# Altium footprint library PcbLib.PcbLib: 11 footprints
Each footprint in its own frame and in the unit in brackets; x right, y up, seen from the top. Pads: shape width x height; smd on the part's side, far side on the other; paste and mask are expansions set on the pad; w line width, h text height; cw(c..) or ccw(c..) is an arc to the next point about the centre after c.
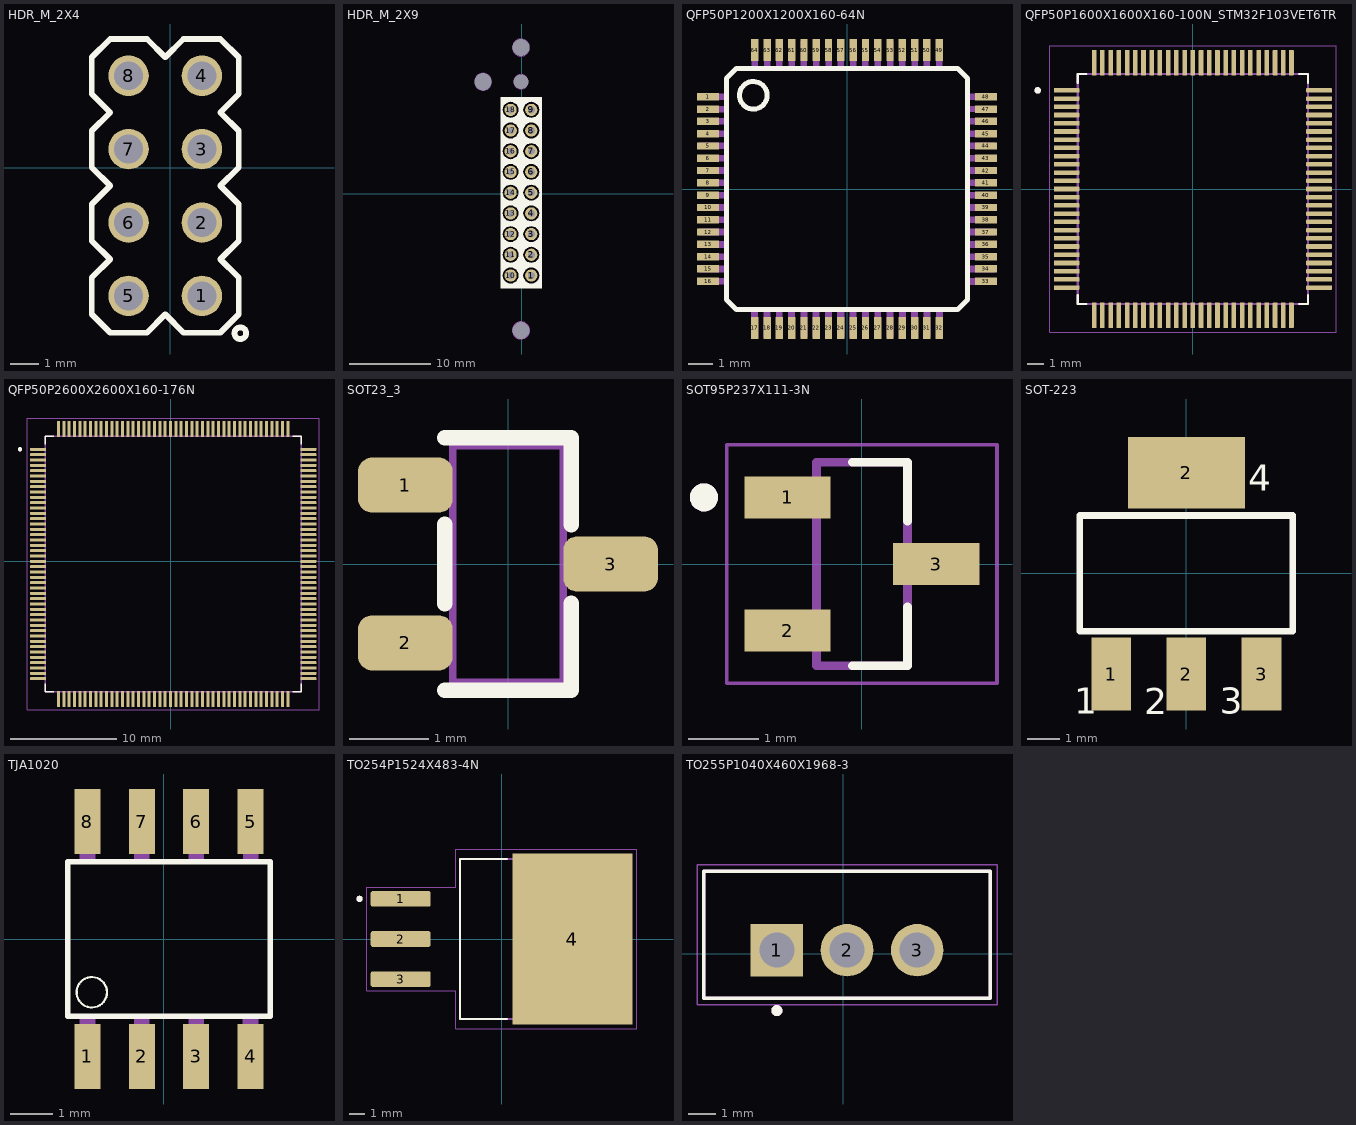
[diagram p0: the footprints below, top view; thin cyan lines are the x and y axes]

## HDR_M_2X4 [mm]
pads (8):
  round 1.4 / inner round 1.4 / far side oval 2.2x1.4 hole 1 mask+0.1: 1(1.093,-4.428) 2(1.093,-1.888) 3(1.093,0.652) 4(1.093,3.192) 5(-1.447,-4.428) 6(-1.447,-1.888) 7(-1.447,0.652) 8(-1.447,3.192)
Top Overlay:
  circle w0.2: c2.423,-5.718 r0.2
  lines w0.2: -2.717,-5.063 -2.717,-3.793 -2.082,-3.158 -2.717,-2.523 -2.717,-1.253 -2.082,-0.618 -2.717,0.017 -2.717,1.287 -2.082,1.922 -2.717,2.557 -2.717,3.827 -2.082,4.462 -0.812,4.462 -0.177,3.827 0.458,4.462 1.728,4.462 2.363,3.827 2.363,2.557 1.728,1.922 2.363,1.287 2.363,0.017 1.728,-0.618 2.363,-1.253 2.363,-2.523 1.728,-3.158 2.363,-3.793 2.363,-5.063 1.728,-5.698 0.458,-5.698 -0.177,-5.063 -0.812,-5.698 -2.082,-5.698 -2.717,-5.063
3D body "User Library-Header_Male_4Pin.STEP": height 8.54, standoff -3, extent -0.177,-5.698 2.312,4.462
3D body "User Library-Header_Male_4Pin.STEP": height 8.54, standoff -3, extent -2.667,-5.698 -0.177,4.462

## HDR_M_2X9 [mm]
pads (22):
  round 1.5 hole 0.85: 1(1.179,-10.055) 2(1.179,-7.515) 3(1.179,-4.975) 4(1.179,-2.435) 5(1.179,0.105) 6(1.179,2.645) 7(1.179,5.185) 8(1.179,7.725) 9(1.179,10.265) 10(-1.361,-10.055) 11(-1.361,-7.515) 12(-1.361,-4.975) 13(-1.361,-2.435) 14(-1.361,0.105) 15(-1.361,2.645) 16(-1.361,5.185) 17(-1.336,7.725) 18(-1.361,10.265)
  round 0 hole 2.1: ""(-4.736,13.717) ""(-0.088,-16.789) ""(-0.088,17.908)
  round 0 hole 1.8: ""(-0.088,13.717)
Top Overlay:
  region: 4 vertices and 18 holes, not listed, extent -2.555,-11.6 2.434,11.84
Keep-Out Layer:
  board cut-out: 0.959,-16.793 0.959,-16.896 0.918,-17.099 0.839,-17.29 0.724,-17.462 0.578,-17.608 0.406,-17.723 0.215,-17.802 0.012,-17.843 -0.091,-17.843 -0.195,-17.843 -0.398,-17.802 -0.589,-17.723 -0.761,-17.608 -0.907,-17.462 -1.022,-17.29 -1.101,-17.099 -1.141,-16.896 -1.141,-16.793 -1.141,-16.689 -1.101,-16.486 -1.022,-16.295 -0.907,-16.123 -0.761,-15.977 -0.589,-15.862 -0.398,-15.783 -0.195,-15.743 -0.091,-15.743 0.012,-15.743 0.215,-15.783 0.406,-15.862 0.578,-15.977 0.724,-16.123 0.839,-16.295 0.918,-16.486 0.959,-16.689
Keep-Out Layer:
  circle w0.1: c-0.091,13.707 r0.9
  circle w0.1: c-4.741,13.707 r1.05
Mechanical 1:
  circle w0.1: c-0.091,-16.793 r1.05
  circle w0.1: c-0.091,17.907 r1.05
3D body "18Pin.stp": height 2.2, standoff -22.6, extent -8.043,-19.871 7.961,21.097

## QFP50P1200X1200X160-64N [mm]
pads (64):
  rect 0.9x0.3 smd: 1(-5.65,3.75) 2(-5.65,3.25) 3(-5.65,2.75) 4(-5.65,2.25) 5(-5.65,1.75) 6(-5.65,1.25) 7(-5.65,0.75) 8(-5.65,0.25) 9(-5.65,-0.25) 10(-5.65,-0.75) 11(-5.65,-1.25) 12(-5.65,-1.75) 13(-5.65,-2.25) 14(-5.65,-2.75) 15(-5.65,-3.25) 16(-5.65,-3.75) 33(5.65,-3.75) 34(5.65,-3.25) 35(5.65,-2.75) 36(5.65,-2.25) 37(5.65,-1.75) 38(5.65,-1.25) 39(5.65,-0.75) 40(5.65,-0.25) 41(5.65,0.25) 42(5.65,0.75) 43(5.65,1.25) 44(5.65,1.75) 45(5.65,2.25) 46(5.65,2.75) 47(5.65,3.25) 48(5.65,3.75)
  rect 0.3x0.9 smd: 17(-3.75,-5.65) 18(-3.25,-5.65) 19(-2.75,-5.65) 20(-2.25,-5.65) 21(-1.75,-5.65) 22(-1.25,-5.65) 23(-0.75,-5.65) 24(-0.25,-5.65) 25(0.25,-5.65) 26(0.75,-5.65) 27(1.25,-5.65) 28(1.75,-5.65) 29(2.25,-5.65) 30(2.75,-5.65) 31(3.25,-5.65) 32(3.75,-5.65) 49(3.75,5.65) 50(3.25,5.65) 51(2.75,5.65) 52(2.25,5.65) 53(1.75,5.65) 54(1.25,5.65) 55(0.75,5.65) 56(0.25,5.65) 57(-0.25,5.65) 58(-0.75,5.65) 59(-1.25,5.65) 60(-1.75,5.65) 61(-2.25,5.65) 62(-2.75,5.65) 63(-3.25,5.65) 64(-3.75,5.65)
Top Overlay:
  circle w0.203: c-3.81,3.81 r0.563
  lines w0.203: -4.9,-4.5 -4.9,4.5 -4.5,4.9 4.5,4.9 4.9,4.5 4.9,-4.5 4.5,-4.9 -4.5,-4.9 -4.9,-4.5
Mechanical 13:
  drawing of 64 lines, arcs and shapes, not listed
3D body "step_temp.STEP": height 1.6, standoff 0, extent -6,-6 6,6

## QFP50P1600X1600X160-100N_STM32F103VET6TR [mm]
pads (100):
  rrect25% 1.56x0.28 smd: 1(-7.68,6) 2(-7.68,5.5) 3(-7.68,5) 4(-7.68,4.5) 5(-7.68,4) 6(-7.68,3.5) 7(-7.68,3) 8(-7.68,2.5) 9(-7.68,2) 10(-7.68,1.5) 11(-7.68,1) 12(-7.68,0.5) 13(-7.68,0) 14(-7.68,-0.5) 15(-7.68,-1) 16(-7.68,-1.5) 17(-7.68,-2) 18(-7.68,-2.5) 19(-7.68,-3) 20(-7.68,-3.5) 21(-7.68,-4) 22(-7.68,-4.5) 23(-7.68,-5) 24(-7.68,-5.5) 25(-7.68,-6) 51(7.68,-6) 52(7.68,-5.5) 53(7.68,-5) 54(7.68,-4.5) 55(7.68,-4) 56(7.68,-3.5) 57(7.68,-3) 58(7.68,-2.5) 59(7.68,-2) 60(7.68,-1.5) 61(7.68,-1) 62(7.68,-0.5) 63(7.68,0) 64(7.68,0.5) 65(7.68,1) 66(7.68,1.5) 67(7.68,2) 68(7.68,2.5) 69(7.68,3) 70(7.68,3.5) 71(7.68,4) 72(7.68,4.5) 73(7.68,5) 74(7.68,5.5) 75(7.68,6)
  rrect25% 0.28x1.56 smd: 26(-6,-7.68) 27(-5.5,-7.68) 28(-5,-7.68) 29(-4.5,-7.68) 30(-4,-7.68) 31(-3.5,-7.68) 32(-3,-7.68) 33(-2.5,-7.68) 34(-2,-7.68) 35(-1.5,-7.68) 36(-1,-7.68) 37(-0.5,-7.68) 38(0,-7.68) 39(0.5,-7.68) 40(1,-7.68) 41(1.5,-7.68) 42(2,-7.68) 43(2.5,-7.68) 44(3,-7.68) 45(3.5,-7.68) 46(4,-7.68) 47(4.5,-7.68) 48(5,-7.68) 49(5.5,-7.68) 50(6,-7.68) 76(6,7.68) 77(5.5,7.68) 78(5,7.68) 79(4.5,7.68) 80(4,7.68) 81(3.5,7.68) 82(3,7.68) 83(2.5,7.68) 84(2,7.68) 85(1.5,7.68) 86(1,7.68) 87(0.5,7.68) 88(0,7.68) 89(-0.5,7.68) 90(-1,7.68) 91(-1.5,7.68) 92(-2,7.68) 93(-2.5,7.68) 94(-3,7.68) 95(-3.5,7.68) 96(-4,7.68) 97(-4.5,7.68) 98(-5,7.68) 99(-5.5,7.68) 100(-6,7.68)
Top Overlay:
  circle w0.2: c-9.44,6 r0.1
  lines w0.127: -7,-6.46 -7,-7 -6.46,-7 ; -7,6.46 -7,7 -6.46,7 ; 6.46,-7 7,-7 7,-6.46 ; 6.46,7 7,7 7,6.46
Mechanical 13:
  circle w0.2: c-9.44,6 r0.1
  lines w0.127: -7,-7 -7,7 7,7 7,-7 -7,-7
Mechanical 15:
  lines w0.05: -8.71,-8.71 -8.71,8.71 8.71,8.71 8.71,-8.71 -8.71,-8.71
3D body "STM32F103VET6TR.STEP": height 1.6, standoff 0, extent -8,-8 8,8

## QFP50P2600X2600X160-176N [mm]
pads (176):
  rrect25% 1.49x0.28 smd: 1(-12.416,10.496) 2(-12.416,9.996) 3(-12.416,9.496) 4(-12.416,8.996) 5(-12.416,8.496) 6(-12.416,7.996) 7(-12.416,7.496) 8(-12.416,6.996) 9(-12.416,6.496) 10(-12.416,5.996) 11(-12.416,5.496) 12(-12.416,4.996) 13(-12.416,4.496) 14(-12.416,3.996) 15(-12.416,3.496) 16(-12.416,2.996) 17(-12.416,2.496) 18(-12.416,1.996) 19(-12.416,1.496) 20(-12.416,0.996) 21(-12.416,0.496) 22(-12.416,-0.004) 23(-12.416,-0.504) 24(-12.416,-1.004) 25(-12.416,-1.504) 26(-12.416,-2.004) 27(-12.416,-2.504) 28(-12.416,-3.004) 29(-12.416,-3.504) 30(-12.416,-4.004) 31(-12.416,-4.504) 32(-12.416,-5.004) 33(-12.416,-5.504) 34(-12.416,-6.004) 35(-12.416,-6.504) 36(-12.416,-7.004) 37(-12.416,-7.504) 38(-12.416,-8.004) 39(-12.416,-8.504) 40(-12.416,-9.004) 41(-12.416,-9.504) 42(-12.416,-10.004) 43(-12.416,-10.504) 44(-12.416,-11.004) 89(12.924,-11.004) 90(12.924,-10.504) 91(12.924,-10.004) 92(12.924,-9.504) 93(12.924,-9.004) 94(12.924,-8.504) 95(12.924,-8.004) 96(12.924,-7.504) 97(12.924,-7.004) 98(12.924,-6.504) 99(12.924,-6.004) 100(12.924,-5.504) 101(12.924,-5.004) 102(12.924,-4.504) 103(12.924,-4.004) 104(12.924,-3.504) 105(12.924,-3.004) 106(12.924,-2.504) 107(12.924,-2.004) 108(12.924,-1.504) 109(12.924,-1.004) 110(12.924,-0.504) 111(12.924,-0.004) 112(12.924,0.496) 113(12.924,0.996) 114(12.924,1.496) 115(12.924,1.996) 116(12.924,2.496) 117(12.924,2.996) 118(12.924,3.496) 119(12.924,3.996) 120(12.924,4.496) 121(12.924,4.996) 122(12.924,5.496) 123(12.924,5.996) 124(12.924,6.496) 125(12.924,6.996) 126(12.924,7.496) 127(12.924,7.996) 128(12.924,8.496) 129(12.924,8.996) 130(12.924,9.496) 131(12.924,9.996) 132(12.924,10.496)
  rrect25% 0.28x1.49 smd: 45(-10.496,-12.924) 46(-9.996,-12.924) 47(-9.496,-12.924) 48(-8.996,-12.924) 49(-8.496,-12.924) 50(-7.996,-12.924) 51(-7.496,-12.924) 52(-6.996,-12.924) 53(-6.496,-12.924) 54(-5.996,-12.924) 55(-5.496,-12.924) 56(-4.996,-12.924) 57(-4.496,-12.924) 58(-3.996,-12.924) 59(-3.496,-12.924) 60(-2.996,-12.924) 61(-2.496,-12.924) 62(-1.996,-12.924) 63(-1.496,-12.924) 64(-0.996,-12.924) 65(-0.496,-12.924) 66(0.004,-12.924) 67(0.504,-12.924) 68(1.004,-12.924) 69(1.504,-12.924) 70(2.004,-12.924) 71(2.504,-12.924) 72(3.004,-12.924) 73(3.504,-12.924) 74(4.004,-12.924) 75(4.504,-12.924) 76(5.004,-12.924) 77(5.504,-12.924) 78(6.004,-12.924) 79(6.504,-12.924) 80(7.004,-12.924) 81(7.504,-12.924) 82(8.004,-12.924) 83(8.504,-12.924) 84(9.004,-12.924) 85(9.504,-12.924) 86(10.004,-12.924) 87(10.504,-12.924) 88(11.004,-12.924) 133(11.004,12.416) 134(10.504,12.416) 135(10.004,12.416) 136(9.504,12.416) 137(9.004,12.416) 138(8.504,12.416) 139(8.004,12.416) 140(7.504,12.416) 141(7.004,12.416) 142(6.504,12.416) 143(6.004,12.416) 144(5.504,12.416) 145(5.004,12.416) 146(4.504,12.416) 147(4.004,12.416) 148(3.504,12.416) 149(3.004,12.416) 150(2.504,12.416) 151(2.004,12.416) 152(1.504,12.416) 153(1.004,12.416) 154(0.504,12.416) 155(0.004,12.416) 156(-0.496,12.416) 157(-0.996,12.416) 158(-1.496,12.416) 159(-1.996,12.416) 160(-2.496,12.416) 161(-2.996,12.416) 162(-3.496,12.416) 163(-3.996,12.416) 164(-4.496,12.416) 165(-4.996,12.416) 166(-5.496,12.416) 167(-5.996,12.416) 168(-6.496,12.416) 169(-6.996,12.416) 170(-7.496,12.416) 171(-7.996,12.416) 172(-8.496,12.416) 173(-8.996,12.416) 174(-9.496,12.416) 175(-9.996,12.416) 176(-10.496,12.416)
Top Overlay:
  circle w0.2: c-14.106,10.496 r0.1
  lines w0.127: -11.746,-11.464 -11.746,-12.254 -10.956,-12.254 ; -11.746,10.956 -11.746,11.746 -10.956,11.746 ; 11.464,-12.254 12.254,-12.254 12.254,-11.464 ; 11.464,11.746 12.254,11.746 12.254,10.956
Mechanical 13:
  circle w0.2: c-14.106,10.496 r0.1
  lines w0.127: -11.746,-12.254 -11.746,11.746 12.254,11.746 12.254,-12.254 -11.746,-12.254
Mechanical 15:
  lines w0.05: -13.411,-13.919 -13.411,13.411 13.919,13.411 13.919,-13.919 -13.411,-13.919
3D body "step_temp.STEP": height 1.61, standoff 0.01, extent -12.746,-13.254 13.254,12.746

## SOT23_3 [mm] "SOT-23, Micro3, MO-178, TO-236AB, MO-193C, SuperSOT3, SC-59, 1.5x3mm, Pitch 1.9mm"
pads (3):
  rrect50% 1.2x0.7 smd paste-0.05 mask+0.1: 1(-1.3,1) 2(-1.3,-1) 3(1.3,0)
Top Overlay:
  lines w0.2: -0.8,-1.6 0.8,-1.6 0.8,-0.5 ; -0.8,-0.5 -0.8,0.5 ; -0.8,1.6 0.8,1.6 0.8,0.5
Mechanical 13:
  lines w0.1: -0.7,-1.5 0.7,-1.5 0.7,1.5 -0.7,1.5 -0.7,-1.5
3D body "User Library-SOT23-2.STEP": height 1.08, standoff 0, extent -1.32,-1.5 1.32,1.5

## SOT95P237X111-3N [mm]
pads (3):
  rect 1.23x0.6 smd: 1(-1.06,0.95) 2(-1.06,-0.95) 3(1.06,0)
Top Overlay:
  circle w0.2: c-2.25,0.95 r0.1
  lines w0.127: -0.132,-1.45 0.65,-1.45 0.65,-0.613 ; -0.132,1.45 0.65,1.45 0.65,0.613
Mechanical 13:
  circle w0.2: c-2.25,0.95 r0.1
  lines w0.127: -0.65,-1.45 -0.65,1.45 0.65,1.45 0.65,-1.45 -0.65,-1.45
Mechanical 15:
  lines w0.05: -1.925,-1.7 -1.925,1.7 1.925,1.7 1.925,-1.7 -1.925,-1.7
3D body "step_temp.STEP": height 1.2, standoff 0, extent -1.2,-1.46 1.2,1.46

## SOT-223 [mil]
pads (4):
  rect 48x88 smd: 1(-91,-122) 2(0,-122) 3(91,-122)
  rect 141.73x86.61 smd: 2(0,122.01)
Top Overlay:
  lines w8: -129,-70 -129,70 129,70 129,-70 -129,-70
  text "2" at -50.81,-170.37 h32
  text "1" at -135.93,-170 h32
  text "4" at 75,100 h32
  text "3" at 40.19,-170 h32
3D body "BSP250,135.STEP": height 70.87, standoff 0, extent -127.95,-137.8 127.95,137.8

## TJA1020 [mil] "LIN"
pads (8):
  rect 24x60 smd: 1(-70,-108) 2(-20,-108) 3(30,-108) 4(80,-108) 5(80,108) 6(30,108) 7(-20,108) 8(-70,108)
Top Overlay:
  circle w2: c-66,-49 r14
  lines w5: -88,-71 98,-71 98,71 -88,71 -88,-71
Mechanical 13:
  region: -63,-113.07 -77.04,-113.07 -77.04,-73 -63,-73
  region: -13,-113.21 -27.01,-113.21 -27.01,-73 -13,-73
  region: 37,-113.06 23.02,-113.06 23.02,-73 37,-73
  region: 87,-113.01 73.01,-113.01 73.01,-73 87,-73
  region: -63,73.12 -77.09,73.12 -77.09,113 -63,113
  region: -13,73.08 -27.01,73.08 -27.01,113 -13,113
  region: 37,73.04 23.02,73.04 23.02,113 37,113
  region: 87,73.07 73.09,73.07 73.09,113 87,113
3D body "TJA1020.STEP": height 68.9, standoff 0, extent -91.46,-118.11 101.46,118.11

## TO254P1524X483-4N [mm]
pads (4):
  rrect25% 3.79x0.99 smd: 1(-6.4,2.54) 2(-6.4,0) 3(-6.4,-2.54)
  rect 7.62x10.84 smd paste-6: 4(4.48,0)
Top Overlay:
  circle w0.2: c-9,2.54 r0.1
  lines w0.127: 0.35,-5.08 -2.648,-5.08 -2.648,5.08 0.35,5.08
Top Paste:
  region: 2.665,-5.13 1.215,-5.13 1.215,-3.87 2.665,-3.87
  region: 2.665,-3.33 1.215,-3.33 1.215,-2.07 2.665,-2.07
  region: 2.665,-1.53 1.215,-1.53 1.215,-0.27 2.665,-0.27
  region: 2.665,3.87 1.215,3.87 1.215,5.13 2.665,5.13
  region: 2.665,2.07 1.215,2.07 1.215,3.33 2.665,3.33
  region: 2.665,0.27 1.215,0.27 1.215,1.53 2.665,1.53
  region: 7.745,-5.13 6.295,-5.13 6.295,-3.87 7.745,-3.87
  region: 7.745,-3.33 6.295,-3.33 6.295,-2.07 7.745,-2.07
  region: 7.745,-1.53 6.295,-1.53 6.295,-0.27 7.745,-0.27
  region: 7.745,3.87 6.295,3.87 6.295,5.13 7.745,5.13
  region: 7.745,2.07 6.295,2.07 6.295,3.33 7.745,3.33
  region: 7.745,0.27 6.295,0.27 6.295,1.53 7.745,1.53
  region: 5.205,-5.13 3.755,-5.13 3.755,-3.87 5.205,-3.87
  region: 5.205,-3.33 3.755,-3.33 3.755,-2.07 5.205,-2.07
  region: 5.205,-1.53 3.755,-1.53 3.755,-0.27 5.205,-0.27
  region: 5.205,3.87 3.755,3.87 3.755,5.13 5.205,5.13
  region: 5.205,2.07 3.755,2.07 3.755,3.33 5.205,3.33
  region: 5.205,0.27 3.755,0.27 3.755,1.53 5.205,1.53
Mechanical 13:
  circle w0.2: c-9,2.54 r0.1
  lines w0.127: -2.648,-5.08 -2.648,5.08 6.373,5.08 6.373,-5.08 -2.648,-5.08
Mechanical 15:
  lines w0.05: -8.545,-3.285 -2.898,-3.285 -2.898,-5.67 8.54,-5.67 8.54,5.67 -2.898,5.67 -2.898,3.285 -8.545,3.285 -8.545,-3.285
3D body "LM1086IS-3.3.STEP": height 5.03, standoff -0.05, extent -7.493,-5.08 7.747,5.08

## TO255P1040X460X1968-3 [mm]
pads (3):
  rect 1.91x1.91 / inner round 1.91 / far side rect 1.91x1.91 hole 1.27: 1(-2.413,0.127)
  round 1.91 hole 1.27: 2(0.137,0.127) 3(2.687,0.127)
Top Overlay:
  circle w0.2: c-2.413,-2.068 r0.1
  lines w0.127: -5.063,-1.613 5.337,-1.613 5.337,2.987 -5.063,2.987 -5.063,-1.613
Mechanical 13:
  circle w0.2: c-2.413,-2.068 r0.1
  lines w0.127: -5.063,-1.613 5.337,-1.613 5.337,2.987 -5.063,2.987 -5.063,-1.613
Mechanical 15:
  lines w0.05: -5.313,-1.863 5.587,-1.863 5.587,3.233 -5.313,3.233 -5.313,-1.863
3D body "step_temp.STEP": height 19.68, standoff -10.34, extent -4.848,-1.632 5.122,2.813